# EAGLE library part MX150L-10PINS (library HyTechDevices)
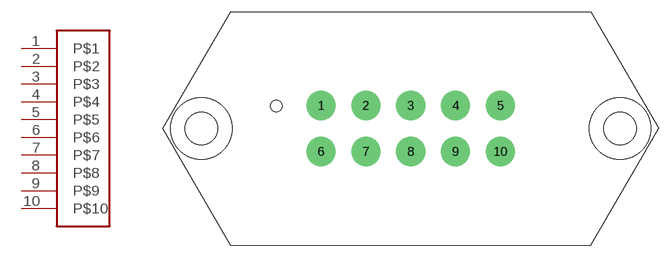
[diagram p64: symbol with the pads of MX150L_VERTICAL-10; footprint MX150L_VERTICAL-10]

Designator prefix -

## MX150L-10PINS  [MX150L_VERTICAL-10]
1  P$1
2  P$2
3  P$3
4  P$4
5  P$5
6  P$6
7  P$7
8  P$8
9  P$9
10  P$10

## Footprint MX150L_VERTICAL-10 (pad centres in mm)
19428-0014 MX150L™ Vertical PCB Header
drill 1.778 pad 3.81: 1 -11.684,2.997; 2 -5.842,2.997; 3 0,2.997; 4 5.842,2.997; 5 11.684,2.997; 6 -11.684,-2.997; 7 -5.842,-2.997; 8 0,-2.997; 9 5.842,-2.997; 10 11.684,-2.997
hole 4.191 at -27.292,0
hole 4.191 at 27.292,0
hole 1.524 at -17.526,2.921